# Altium footprint library PCB.PcbLib: 14 footprints
Each footprint in its own frame and in the unit in brackets; x right, y up, seen from the top. Pads: shape width x height; smd on the part's side, far side on the other; paste and mask are expansions set on the pad; w line width, h text height; cw(c..) or ccw(c..) is an arc to the next point about the centre after c.
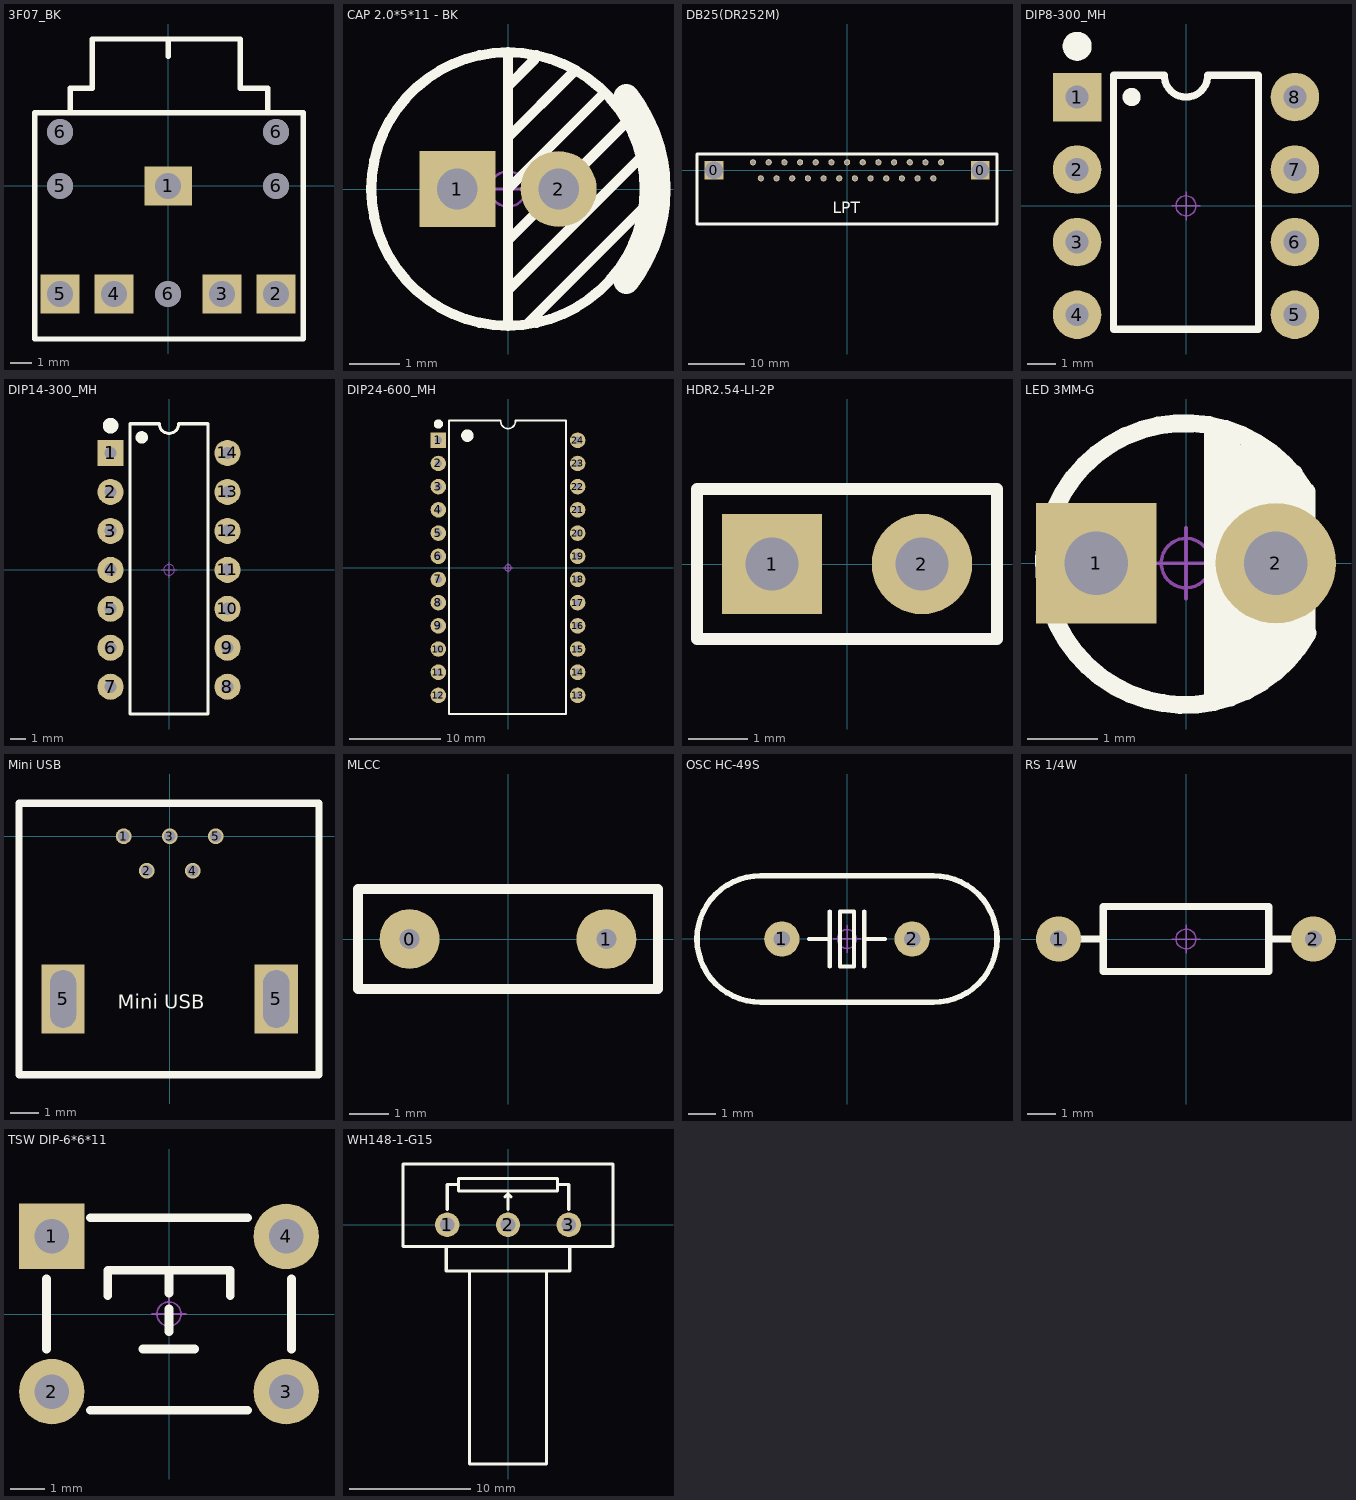
[diagram p0: the footprints below, top view; thin cyan lines are the x and y axes]

## 3F07_BK [mm] "黑色，14.2*12*5mm"
pads (10):
  rect 2.2x1.8 hole 1.2: 1(0,0)
  rect 1.8x1.8 hole 1.2: 2(5,-5) 3(2.5,-5) 4(-2.5,-5) 5(-5,-5)
  round 1.2 hole 1.2: 5(-5,0)
  round 1.2 hole 1.2 unplated: 6(-5,2.5) 6(0,-5) 6(5,0) 6(5,2.5)
Top Overlay:
  lines w0.254: -4.532,3.382 -4.532,4.525 -3.516,4.525 -3.516,6.8 3.342,6.8 3.342,4.525 4.612,4.525 4.612,3.382 ; 0,6 0,6.8 ; -6.183,-7.087 -6.183,3.382 6.263,3.382 6.263,-7.087 -6.183,-7.087
3D body "3F07_BK.STEP": height 5.6, standoff -2.9, extent -6,-7.7 6,6.5

## CAP 2.0*5*11 - BK [mm] "脚距2mm直径5mm高度11mm"
pads (2):
  rect 1.5x1.5 hole 0.8: 1(-1,0)
  round 1.5 hole 0.8: 2(1,0)
Top Overlay:
  circle w0.2: c0,0 r2.7
  lines w0.2: 0,-2.667 0,-2 ; 0,-1.016 2.286,1.27 ; 0,0 1.905,1.905 ; 0,1.016 1.27,2.286 ; 0,2.032 0.508,2.54 ; 0,2.667 0,-2 ; 0.381,-2.667 2.667,-0.381 ; 2.651,0.651 0,-2
  lines w0.5: 2.338,-1.819 ccw(c0,0) 2.338,1.819
Mechanical 15:
  circle w0.05: c0,0 r0.35
  lines w0.05: -0.5,0 0.5,0 ; 0,-0.5 0,0.5
3D body "CAP 2X5X11.STEP": height 11.04, standoff -3.42, extent -2.5,-2.499 2.51,2.499

## DB25(DR252M) [mm]
pads (27):
  rect 3.3x3.3 hole 3.13: 0(-23.52,0) 0(23.52,0)
  round 1.1 hole 0.7: 1(-16.62,1.42) 2(-13.85,1.42) 3(-11.08,1.42) 4(-8.31,1.42) 5(-5.54,1.42) 6(-2.77,1.42) 7(0,1.42) 8(2.77,1.42) 9(5.54,1.42) 10(8.31,1.42) 11(11.08,1.42) 12(13.85,1.42) 13(16.62,1.42) 14(-15.235,-1.42) 15(-12.465,-1.42) 16(-9.695,-1.42) 17(-6.925,-1.42) 18(-4.155,-1.42) 19(-1.385,-1.42) 20(1.385,-1.42) 21(4.155,-1.42) 22(6.925,-1.42) 23(9.695,-1.42) 24(12.465,-1.42) 25(15.235,-1.42)
Top Overlay:
  lines w0.508: 26.467,2.87 26.441,2.896 ; 26.441,2.896 -26.518,2.896 -26.518,-9.5 -26.492,-9.474 26.492,-9.474 26.492,2.845 26.441,2.896
  text "LPT" at -2.54,-7.62 h2

## DIP8-300_MH [mm] "带底座 9.4*7.6*3.8(长宽高）"
pads (8):
  rect 1.7x1.7 hole 0.8: 1(-3.81,3.81)
  round 1.7 hole 0.8: 2(-3.81,1.27) 3(-3.81,-1.27) 4(-3.81,-3.81) 5(3.81,-3.81) 6(3.81,-1.27) 7(3.81,1.27) 8(3.81,3.81)
Top Overlay:
  circle w0.381: c-1.905,3.81 r0.127
  circle w0.508: c-3.81,5.588 r0.254
  lines w0.254: -2.54,-4.318 2.54,-4.318 2.54,4.572 0.762,4.572 cw(c0,4.572) 0,3.81 cw(c0,4.572) -0.762,4.572 -2.54,4.572 -2.54,-4.318
Mechanical 15:
  circle w0.05: c0,0 r0.35
  lines w0.05: -0.5,0 0.5,0 ; 0,-0.5 0,0.5
3D body "DIP-MH8-300.STEP": height 4.95, standoff -2.95, extent -5,-5.19 5,5.19
3D body "DIP8-300.STEP": height 7.7, standoff 0, extent -3.925,-4.7 3.925,4.7

## DIP14-300_MH [mm] "带底座  19*7.6*3.8(长宽高）"
pads (14):
  rect 1.7x1.7 hole 0.8: 1(-3.81,7.62)
  round 1.7 hole 0.8: 2(-3.81,5.08) 3(-3.81,2.54) 4(-3.81,0) 5(-3.81,-2.54) 6(-3.81,-5.08) 7(-3.81,-7.62) 8(3.81,-7.62) 9(3.81,-5.08) 10(3.81,-2.54) 11(3.81,0) 12(3.81,2.54) 13(3.81,5.08) 14(3.81,7.62)
Top Overlay:
  circle w0.6: c-1.778,8.636 r0.1
  circle w0.508: c-3.81,9.398 r0.254
  lines w0.2: -2.54,-9.398 -2.54,9.525 -0.635,9.525 ccw(c0,9.525) 0.635,9.525 2.54,9.525 2.54,-9.398 -2.54,-9.398
Mechanical 15:
  circle w0.05: c0,0 r0.35
  lines w0.05: -0.5,0 0.5,0 ; 0,-0.5 0,0.5
3D body "DIP14-300.STEP": height 7.15, standoff -0.3, extent -3.98,-9.5 3.98,9.5
3D body "DIP-MH14-300.STEP": height 4.95, standoff -2.95, extent -5,-9 5,9

## DIP24-600_MH [mm] "带底座 32.5*15.24*3.8(长宽高）"
pads (24):
  rect 1.7x1.7 hole 0.8: 1(-7.62,13.97)
  round 1.7 hole 0.8: 2(-7.62,11.43) 3(-7.62,8.89) 4(-7.62,6.35) 5(-7.62,3.81) 6(-7.62,1.27) 7(-7.62,-1.27) 8(-7.62,-3.81) 9(-7.62,-6.35) 10(-7.62,-8.89) 11(-7.62,-11.43) 12(-7.62,-13.97) 13(7.62,-13.97) 14(7.62,-11.43) 15(7.62,-8.89) 16(7.62,-6.35) 17(7.62,-3.81) 18(7.62,-1.27) 19(7.62,1.27) 20(7.62,3.81) 21(7.62,6.35) 22(7.62,8.89) 23(7.62,11.43) 24(7.62,13.97)
Top Overlay:
  circle w0.508: c-7.62,15.748 r0.254
  circle w1: c-4.445,14.478 r0.18
  lines w0.2: -0.796,16.121 ccw(c0.004,16.044) 0.803,16.134 ; -0.796,16.14 -6.46,16.14 -6.46,-16.002 6.35,-16.002 6.35,16.14 0.803,16.14
Mechanical 15:
  circle w0.05: c0,0 r0.35
  lines w0.05: -0.5,0 0.5,0 ; 0,-0.5 0,0.5
3D body "DIP-MH24-600.STEP": height 4.95, standoff -3.05, extent -8.845,-15.5 8.845,15.5
3D body "DIP24-600.STEP": height 7.8, standoff 0, extent -7.73,-16.25 7.73,16.25

## HDR2.54-LI-2P [mm] "排针，2脚"
pads (2):
  rect 1.7x1.7 hole 0.9: 1(-1.27,0)
  round 1.7 hole 0.9: 2(1.27,0)
Top Overlay:
  lines w0.2: -2.54,-1.27 2.54,-1.27 2.54,1.27 -2.54,1.27 -2.54,-1.27
3D body "HDR2.54-1P.STEP": height 8.5, standoff -3, extent -2.54,-1.27 0,1.27
3D body "HDR2.54-1P.STEP": height 8.5, standoff -3, extent 0,-1.27 2.54,1.27

## LED 3MM-G [mm] "绿色3mm直插LED"
height 6.35
pads (2):
  rect 1.7x1.7 hole 0.9: 1(-1.27,0)
  round 1.7 hole 0.9: 2(1.27,0)
Top Overlay:
  lines w0.254: 0.381,-1.905 0.381,1.905 ; 0.635,-1.778 0.635,1.778 ; 1.016,-1.651 1.016,1.524 ; 1.524,1.27 1.524,-1.27 1.27,-1.524 1.27,1.397 1.143,1.524 1.016,1.524 ; 1.685,1.025 ccw(c-0.016,-0.012) 1.72,-0.987 ; 1.702,-0.965 1.702,1.016 ; 0.889,1.651 1.016,1.524 ; 0.889,1.651 0.889,-1.778 0.889,1.651
Mechanical 15:
  circle w0.05: c0,0 r0.35
  lines w0.05: -0.5,0 0.5,0 ; 0,-0.5 0,0.5
3D body "LED 3mm-G.STEP": height 3.01, standoff -3.45, extent -1.623,-0.838 1.618,0.838
3D body "LED 3mm-玻璃罩.STEP": height 5.55, standoff 0.05, extent -1.95,-1.95 1.638,1.95

## Mini USB [mm]
pads (7):
  round 0.55 hole 0.4: 1(-1.6,0) 2(-0.8,-1.2) 3(0,0) 4(0.8,-1.2) 5(1.6,0)
  rect 1.5x2.4 hole 0.9 slot 2 at 90 deg: 5(-3.7,-5.65) 5(3.7,-5.65)
Top Overlay:
  lines w0.254: -5.232,-8.28 -5.232,1.143 5.182,1.143 5.182,-8.28 -5.232,-8.28
  text "Mini USB" at -1.803,-5.994 h0.5

## MLCC [mm]
pads (2):
  round 1.524 hole 0.5: 0(-2.5,0) 1(2.5,0)
Top Overlay:
  lines w0.254: -3.81,-1.27 3.81,-1.27 3.81,1.27 -3.81,1.27 -3.81,-1.27

## OSC HC-49S [mm]
pads (2):
  round 1.3 hole 0.6: 1(-2.4,0) 2(2.4,0)
Top Overlay:
  lines w0.152: -1.397,0 -0.635,0 ; -0.635,-1.016 -0.635,1.016 ; 0.635,-1.016 0.635,1.016 ; 0.635,0 1.397,0 ; -0.254,-1.016 -0.254,1.016 0.254,1.016 0.254,-1.016 -0.254,-1.016
  lines w0.203: -3.175,2.325 ccw(c-3.2,0) -3.173,-2.325 3.175,-2.325 ccw(c3.2,0) 3.173,2.325 -3.175,2.325
Mechanical 15:
  circle w0.05: c0,0 r0.35
  lines w0.05: -0.5,0 0.5,0 ; 0,-0.5 0,0.5
3D body "OSC HC-49S.STEP": height 4.13, standoff -3.45, extent -5.525,-2.325 5.525,2.325

## RS 1/4W [mm] "直插色环电阻，脚距9mm，直径2.3mm"
pads (2):
  round 1.6 hole 0.6: 1(-4.5,0) 2(4.5,0)
Top Overlay:
  lines w0.254: -3.683,0 -3.048,0 ; 3.048,0 3.683,0 ; -2.921,-1.143 2.921,-1.143 2.921,1.143 -2.921,1.143 -2.921,-1.143
Mechanical 15:
  circle w0.05: c0,0 r0.35
  lines w0.05: -0.5,0 0.5,0 ; 0,-0.5 0,0.5
3D body "RS 1-4W.STEP": height 2.32, standoff -3.49, extent -4.725,-1.16 4.725,1.16

## TSW DIP-6*6*11 [mm] "6*6*11mm"
pads (4):
  rect 1.9x1.9 hole 1: 1(-3.4,2.25)
  round 1.9 hole 1: 2(-3.4,-2.25) 3(3.4,-2.25) 4(3.4,2.25)
Top Overlay:
  lines w0.254: -3.556,-1.016 -3.556,1.016 ; -2.286,-2.794 2.286,-2.794 ; -2.286,2.794 2.286,2.794 ; -1.778,0.533 -1.778,1.27 1.778,1.27 1.778,0.533 ; -0.762,-1.016 0.737,-1.016 ; 0,-0.508 0,0.152 ; 0,0.61 0,1.27 ; 3.556,-1.016 3.556,1.016
Bottom Overlay:
  lines w0.254: -2.286,-2.286 2.286,-2.286 ; -2.286,2.286 2.286,2.286
Mechanical 15:
  circle w0.05: c0,0 r0.35
  lines w0.05: -0.5,0 0.5,0 ; 0,-0.5 0,0.5
3D body "TSW DIP-6x6x11.STEP": height 10.95, standoff -3.45, extent -4.106,-3 4.106,3

## WH148-1-G15 [mm] "单联电位器，脚距：5mm，柄长：15mm"
pads (3):
  round 2 hole 1.2: 1(-5,0) 2(0,0) 3(5,0)
Top Overlay:
  lines w0.254: -5.08,-1.778 -5.08,-3.8 5.08,-3.8 5.08,-1.778 ; -5,1.27 -5,3.302 -4.064,3.302 ; -3.175,-3.81 -3.175,-19.685 3.175,-19.685 3.175,-3.81 ; -0.254,2.286 0,2.54 ; 0,1.27 0,2.54 ; 0.254,2.286 0,2.54 ; 4.064,3.302 4.572,3.302 5,3.302 5,1.27 ; -8.636,-1.778 -8.636,5 8.636,5 8.636,-1.778 -8.636,-1.778 ; -4.064,2.794 -4.064,3.81 4.064,3.81 4.064,2.794 -4.064,2.794
3D body "WH148-1-G15.STEP": height 20.95, standoff -3.8, extent -8.45,-19.5 8.45,4.8